# Altium schematic symbol library BMS_Link_Rev0.SchLib: 27 symbols
Pins are listed as number, name and electrical type; pins without a type are passive.

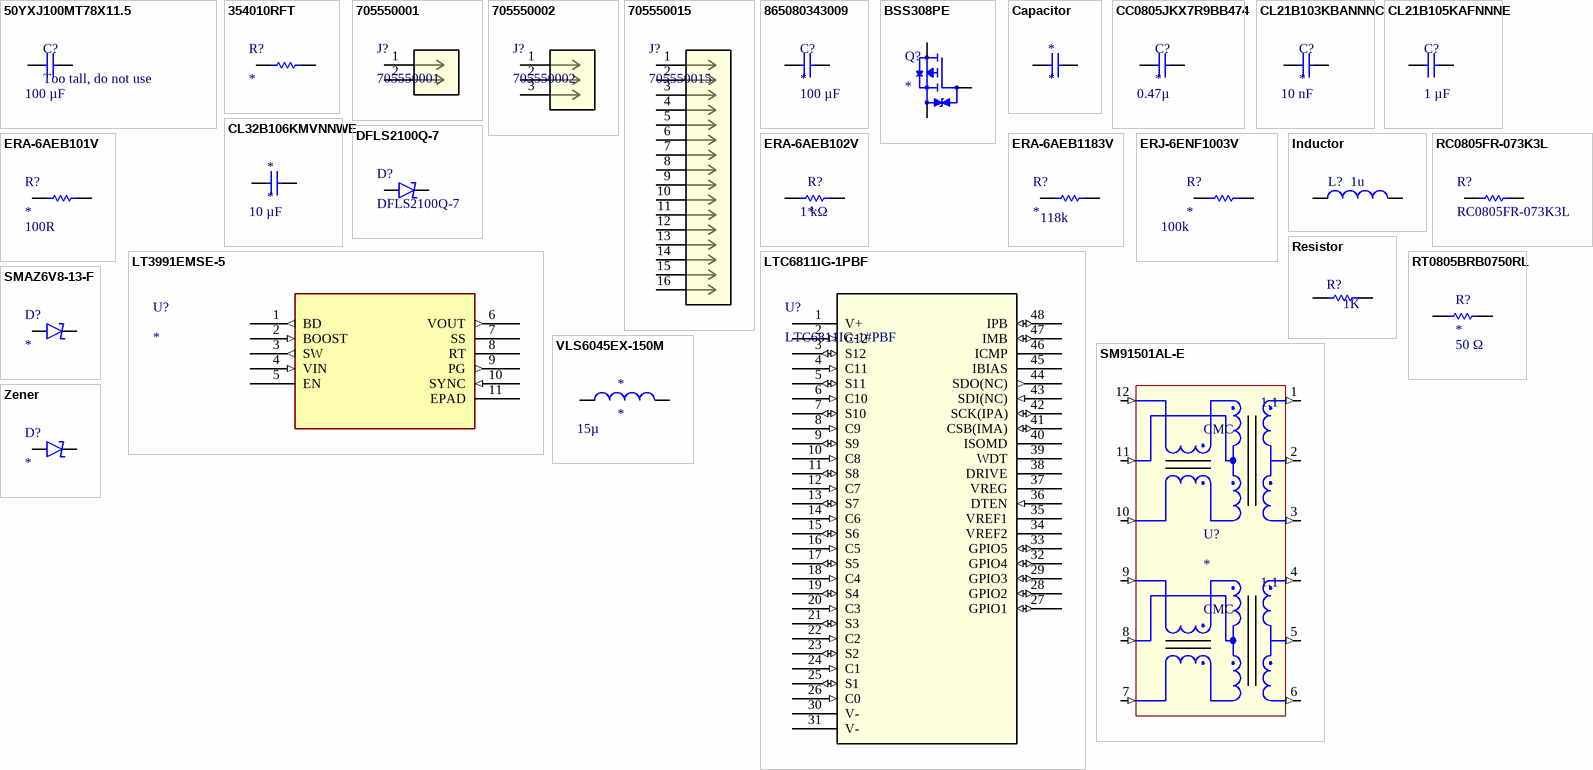
[diagram p0: symbols 50YXJ100MT78X11.5 to Zener]

## 50YXJ100MT78X11.5
designator C?, comment Too tall, do not use  value 100 µF
100 µF 50 V Aluminum Electrolytic Capacitors Radial, Can 7000 Hrs @ 105°C
footprint 8MM_DIA_ELECTROLYTIC (Used by: / - 50YXJ100MT78X11.5 / 8 mm diameter by 11 mm height electrolytic capacitor footprint. 3.5 mm inter-pin spacing.)
pins: 1, 2

## 354010RFT
designator R?
3540 10R 1%; Value: 10 Ω
footprint RES_3540_TEC-M
pins: 1, 2

## 705550001
designator J?
2.54mm Pitch SL Header, Single Row, Right Angle, 3.05mm Pocket, Shrouded, with Press-fit Plastic Peg, 2 Circuits, Tin (Sn) Plating; Manufacturer_Name: Molex Connector Corporation; Copyright: Copyright (C) 2025 Ultra Librarian. All rights reserved.; Manufacturer_Part_Number: 705550001; Datasheet: https://www.molex.com/en-us/products/part-detail-pdf/705550001?display=pdf; RefDes: RefDes; Type: Type
footprint CONN_705550000-SD_02_MOL
pins: 1, 2

## 705550002
designator J?
2.54mm Pitch SL Header, Single Row, Right Angle, 3.05mm Pocket, Shrouded, with Press-fit Plastic Peg, 3 Circuits, Tin (Sn) Plating; Manufacturer_Name: Molex Connector Corporation; Copyright: Copyright (C) 2025 Ultra Librarian. All rights reserved.; Manufacturer_Part_Number: 705550002; Datasheet: https://www.molex.com/en-us/products/part-detail-pdf/705550002?display=pdf; RefDes: RefDes; Type: Type
footprint CONN_705550000-SD_03_MOL
pins: 1, 2, 3

## 705550015
designator J?
2.54mm Pitch SL Header, Single Row, Right Angle, 3.05mm Pocket, Shrouded, with Press-fit Plastic Peg, 16 Circuits, Tin (Sn) Plating; Manufacturer_Name: Molex Connector Corporation; Copyright: Copyright (C) 2025 Ultra Librarian. All rights reserved.; Manufacturer_Part_Number: 705550015; Datasheet: https://www.molex.com/en-us/products/part-detail-pdf/705550015?display=pdf; RefDes: RefDes; Type: Type
footprint MOLEX-CON-16P-705550000
pins: 1, 2, 3, 4, 5, 6, 7, 8, 9, 10, 11, 12, 13, 14, 15, 16

## 865080343009
designator C?  value 100 µF
100 µF 16 V Aluminum Electrolytic Capacitors Radial, Can - SMD 2000 Hrs @ 105°C
footprint WCAP-ASLI_6.3X5.5(DXL) (Used by: 865080343009)
pins: 1, 2

## BSS308PE
designator Q?
P-Channel 30 V 2A (Ta) 500mW (Ta) Surface Mount PG-SOT23; MF: Infineon; MP: BSS308PE; SnapEDA_Link: https://www.snapeda.com/parts/BSS308PE/Infineon/view-part/?ref=snap; Package: SOT-23 Infineon Technologies; Value: *; Check_prices: https://www.snapeda.com/parts/BSS308PE/Infineon/view-part/?ref=eda
footprint TRANS_SOT23 (Used by:  BSS308PE)
pins: 1 G, 2 S, 3 D

## Capacitor
designator *
Default Ceramic Capacitor Template for Drawing
pins: 1, 2

## CC0805JKX7R9BB474
designator C?  value 0.47µ
0.47 µF ±5% 50V Ceramic Capacitor X7R 0805 (2012 Metric)
footprint 0805_CAPACITOR
pins: 1, 2

## CL21B103KBANNNC
designator C?  value 10 nF
10 nF ±10% 50V Ceramic Capacitor X7R 0805 (2012 Metric)
footprint 0805_CAPACITOR
pins: 1, 2

## CL21B105KAFNNNE
designator C?  value 1 µF  (hidden comment: *)
1 µF ±10% 25V Ceramic Capacitor X7R 0805 (2012 Metric)
footprint 0805_CAPACITOR
pins: 1, 2

## CL32B106KMVNNWE
designator *  value 10 µF
10 µF ±10% 63V Ceramic Capacitor X7R 1210 (3225 Metric)
footprint 1210_CAPACITOR
pins: 1, 2

## DFLS2100Q-7
designator D?
Diode 100 V 2A Surface Mount PowerDI™ 123; Manufacturer_Name: Diodes Inc; Copyright: Copyright (C) 2025 Ultra Librarian. All rights reserved.; Manufacturer_Part_Number: DFLS2100Q-7
footprint POWERDI123_DIO_ABR-M (Used By: / - DFLS2100Q-7)
pins: 1 A, 2 K

## ERA-6AEB101V
designator R?  value 100R
100 Ohms ±0.1% 0.125W, 1/8W Chip Resistor 0805 (2012 Metric) Automotive AEC-Q200 Thin Film
footprint 0805_RESISTOR (Default 0805 (2012 Metric) resistor PCB component.)
pins: 1, 2

## ERA-6AEB102V
designator R?  value 1 kΩ
1 kOhms ±0.1% 0.125W, 1/8W Chip Resistor 0805 (2012 Metric) Automotive AEC-Q200 Thin Film; Supplier 1: DigiKey; Supplier Part Number 1: P1.0KDACT-ND; Supplier 2: DigiKey; Supplier Part Number 2: P1.0KDADKR-ND
footprint 0805_RESISTOR (Default 0805 (2012 Metric) resistor PCB component.)
pins: 1, 2

## ERA-6AEB1183V
designator R?  value 118k
118 kOhms ±0.1% 0.125W, 1/8W Chip Resistor 0805 (2012 Metric) Automotive AEC-Q200 Thin Film; MP: ERA6AEB1183V; Package: None; Availability: Unavailable; Price: None; Supplier 1: DigiKey; Supplier Part Number 1: P118KDACT-ND; Supplier 2: DigiKey; Supplier Part Number 2: P118KDADKR-ND
footprint 0805_RESISTOR (Default 0805 (2012 Metric) resistor PCB component.)
pins: 1, 2

## ERJ-6ENF1003V
designator R?  value 100k
100 kOhms ±1% 0.125W, 1/8W Chip Resistor 0805 (2012 Metric) Automotive AEC-Q200 Thick Film; Supplier 1: DigiKey; Supplier Part Number 1: P100KCCT-ND; Supplier 2: DigiKey; Supplier Part Number 2: P100KCDKR-ND
footprint 0805_RESISTOR (Default 0805 (2012 Metric) resistor PCB component.)
pins: 1, 2

## Inductor
designator L?  value 1u  (hidden comment: Inductor)
Default Inductor Template For Schematic Symbol; SimulationGenericComponent: True
pins: 1, 2

## LT3991EMSE-5
designator U?
55V, 1.2A Step-Down Regulator with 2.8 uA Quiescent Current; MF: Analog Devices; MP: LT3991EMSE-5#PBF; Value: *; Package: MSOP -10 Analog Devices; Digi-Key_Part_Number: LT3991EMSE-5#PBF-ND; Check_prices: https://www.snapeda.com/parts/LT3991EMSE-5%23PBF/Analog+Devices/view-part/?ref=eda; SnapEDA_Link: https://www.snapeda.com/parts/LT3991EMSE-5%23PBF/Analog+Devices/view-part/?ref=snap; Purchase-URL: https://pricing.snapeda.com/search/part/LT3991EMSE-5#PBF/?ref=eda; Supplier 1: DigiKey; Supplier Part Number 1: LT3991EMSE-5#PBF-ND
footprint MSOP-10_MSE (Used By: / - LT3991EMSE-5)
pins: 1 BD (out), 2 BOOST (in), 3 SW (out), 4 VIN (in), 5 EN, 6 VOUT (out), 7 SS, 8 RT, 9 PG (out), 10 SYNC (in), 11 EPAD

## LTC6811IG-1PBF
designator U?, comment LTC6811IG-1#PBF
12 Channel Multicell Battery Monitor with Daisy Chain Interface, Generation 4; Manufacturer_Name: Analog Devices Inc; Type: Power Management; Copyright: Copyright (C) 2025 Ultra Librarian. All rights reserved.; Manufacturer_Part_Number: LTC6811IG-1#PBF; Datasheet: https://www.analog.com/media/en/technical-documentation/data-sheets/LTC6811-1-6811-2.pdf; RefDes: RefDes; Supplier 1: DigiKey; Supplier Part Number 1: 505-LTC6811IG-1#PBF-ND
footprint 48-SSOP (Used By:)
pins: 1 V+ (power), 2 C12 (in), 3 S12 (io), 4 C11 (in), 5 S11 (io), 6 C10 (in), 7 S10 (io), 8 C9 (in), 9 S9 (io), 10 C8 (in), 11 S8 (io), 12 C7 (in), 13 S7 (io), 14 C6 (in), 15 S6 (io), 16 C5 (in), 17 S5 (io), 18 C4 (in), 19 S4 (io), 20 C3 (in), 21 S3 (io), 22 C2 (in), 23 S2 (io), 24 C1 (in), 25 S1 (io), 26 C0 (in), 27 GPIO1 (io), 28 GPIO2 (io), 29 GPIO3 (io), 30 V- (power), 31 V- (power), 32 GPIO4 (io), 33 GPIO5 (io), 34 VREF2 (power), 35 VREF1 (power), 36 DTEN (in), 37 VREG, 38 DRIVE (power), 39 WDT, 40 ISOMD, 41 CSB(IMA) (io), 42 SCK(IPA) (io), 43 SDI(NC) (in), 44 SDO(NC) (out), 45 IBIAS (power), 46 ICMP, 47 IMB (io), 48 IPB (io)

## RC0805FR-073K3L
designator R?
3.3 kOhms ±1% 0.125W, 1/8W Chip Resistor 0805 (2012 Metric) Moisture Resistant Thick Film; Value: 3.3 kΩ
footprint 0805_RESISTOR (Default 0805 (2012 Metric) resistor PCB component.)
pins: 1, 2

## Resistor
designator R?  value 1K  (hidden comment: Resistor)
Default Resistor Template For Schematic Symbol; TC1: 0; SimulationGenericComponent: True; TC2: 0
pins: 1, 2

## RT0805BRB0750RL
designator R?  value 50 Ω
50 Ohms ±0.1% 0.125W, 1/8W Chip Resistor 0805 (2012 Metric) Moisture Resistant Thin Film; Supplier 1: DigiKey; Supplier Part Number 1: 13-RT0805BRB0750RLCT-ND; Supplier 2: DigiKey; Supplier Part Number 2: 13-RT0805BRB0750RLDKR-ND
footprint 0805_RESISTOR (Default 0805 (2012 Metric) resistor PCB component.)
pins: 1, 2

## SM91501AL-E
designator U?
150µH Pulse Transformer 1CT:1CT Surface Mount; Supplier 1: DigiKey; Supplier Part Number 1: 118-SM91501AL-ECT-ND; Supplier 2: DigiKey; Supplier Part Number 2: 118-SM91501AL-EDKR-ND
footprint SOP200P1473X500-12N
pins: 1 (out), 2 (out), 3 (out), 4 (out), 5 (out), 6 (out), 7 (in), 8 (in), 9 (in), 10 (in), 11 (in), 12 (in)
text: 1:1; CMC

## SMAZ6V8-13-F
designator D?
Zener Diode 6.8 V 1 W ±5% Surface Mount SMA DO-214AC; Supplier 1: DigiKey; Supplier Part Number 1: SMAZ6V8-FDICT-ND; Supplier 2: DigiKey; Supplier Part Number 2: SMAZ6V8-FDIDKR-ND
footprint SMA_DO-214AC_DIODE
pins: 1 A, 2 K

## VLS6045EX-150M
designator *  value 15µ
15 µH Shielded Drum Core, Wirewound Inductor 2.5 A 75mOhm Nonstandard; Supplier 1: DigiKey; Supplier Part Number 1: 445-173041-1-ND; Supplier 2: DigiKey; Supplier Part Number 2: 445-173041-6-ND
footprint IND_VLS6045EX-150M
pins: 1, 2

## Zener
designator D?
Default Zener Diode Template For Schematic Symbol
pins: 1 A, 2 K